# EAGLE library part MCP2561 (library custom-devices)
High-Speed CAN Flexible Data Rate Transceiver with Common Mode Stabilisation
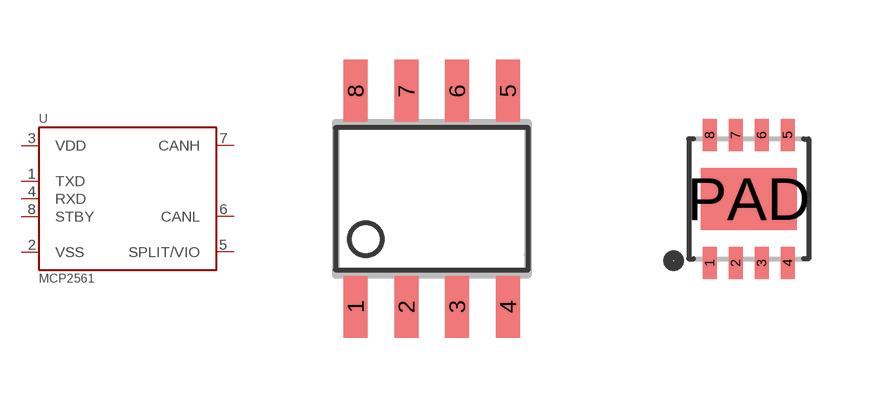
[diagram p13: symbol with the pads of SOIC08; footprints SOIC08, DFN8_3X3]

Designator prefix U

## MCP2561_SOIC (DIGI-KEY: MCP2561-E/SN-ND)  [SOIC08]
1  TXD
2  VSS
3  VDD
4  RXD
5  SPLIT/VIO
6  CANL
7  CANH
8  STBY

## MCP2561_DFN (DIGI-KEY: MCP2561-E/MF-ND; MOUSER: 579-MCP2561-E/SN)  [DFN8_3X3]
1  TXD
2  VSS
3  VDD
4  RXD
5  SPLIT/VIO
6  CANL
7  CANH
8  STBY
PAD  VSS

## Footprint SOIC08 (pad centres in mm)
Small Outline IC
smd 0.6 x 1.55: 1 -1.905,-2.7; 2 -0.635,-2.7; 3 0.635,-2.7; 4 1.905,-2.7; 5 1.905,2.7; 6 0.635,2.7; 7 -0.635,2.7; 8 -1.905,2.7

## Footprint DFN8_3X3 (pad centres in mm)
smd 0.35 x 0.8: 1 -0.975,-1.6; 2 -0.325,-1.6; 3 0.325,-1.6; 4 0.975,-1.6; 5 0.975,1.6; 6 0.325,1.6; 7 -0.325,1.6; 8 -0.975,1.6
smd 2.4 x 1.55: PAD 0,0